# Altium schematic symbol library FINDER 40.31.SchLib: 1 symbol
Pins are listed as number, name and electrical type; pins without a type are passive.

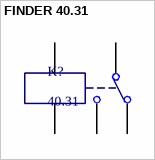
[diagram p0: symbol FINDER 40.31]

## FINDER 40.31
designator K?, comment 40.31
Finder print relej
footprint 40.31 FINDER (FINDER RELAY 40.31 12V)
pins: 1, 2, 3, 4, 5